# EAGLE library part TXS0102 (library MOTO_LIB)
2-BIT BIDIRECTIONAL VOLTAGE-LEVEL TRANSLATOR FOR OPEN-DRAIN AND PUSH-PULL APPLICATIONS
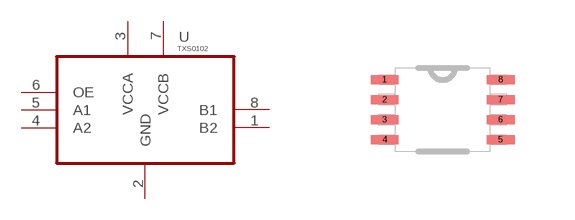
[diagram p6: symbol with the pads of SOP50P310X90-8N; footprint SOP50P310X90-8N]

Designator prefix U

## TXS0102 (MPN: TXS0102DCUR; SUPPLIER: TEXAS INSTRUMENTS)  [SOP50P310X90-8N]
1  B2
2  GND  pas
3  VCCA  pwr
4  A2
5  A1
6  OE  in
7  VCCB  pwr
8  B1

## Footprint SOP50P310X90-8N (pad centres in mm)
smd 0.7 x 0.23: 1 -1.45,0.75; 2 -1.45,0.25; 3 -1.45,-0.25; 4 -1.45,-0.75; 5 1.45,-0.75; 6 1.45,-0.25; 7 1.45,0.25; 8 1.45,0.75